# Altium schematic symbol library SCH - CONNECTORS - SAMTEC - TFM-115-02-L-D-A-K.SCHLIB: 1 symbol
Pins are listed as number, name and electrical type; pins without a type are passive.

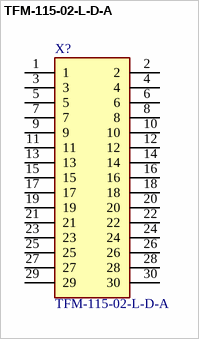
[diagram p0: symbol TFM-115-02-L-D-A]

## TFM-115-02-L-D-A
designator X?
Connector; Manufacturer: SAMTEC; Category: SAMTEC; Created: 2020-09-21_MGremer; Manufacturer Part Number: TFM-115-02-L-D-A; Supplier 1: Mouser; Supplier Part Number 1: 200-TFM11502LDA
pins: 1, 2, 3, 4, 5, 6, 7, 8, 9, 10, 11, 12, 13, 14, 15, 16, 17, 18, 19, 20, 21, 22, 23, 24, 25, 26, 27, 28, 29, 30